# Altium footprint library CONN_3.5MM_JACK.PcbLib: 4 footprints
Each footprint in its own frame and in the unit in brackets; x right, y up, seen from the top. Pads: shape width x height; smd on the part's side, far side on the other; paste and mask are expansions set on the pad; w line width, h text height; cw(c..) or ccw(c..) is an arc to the next point about the centre after c.
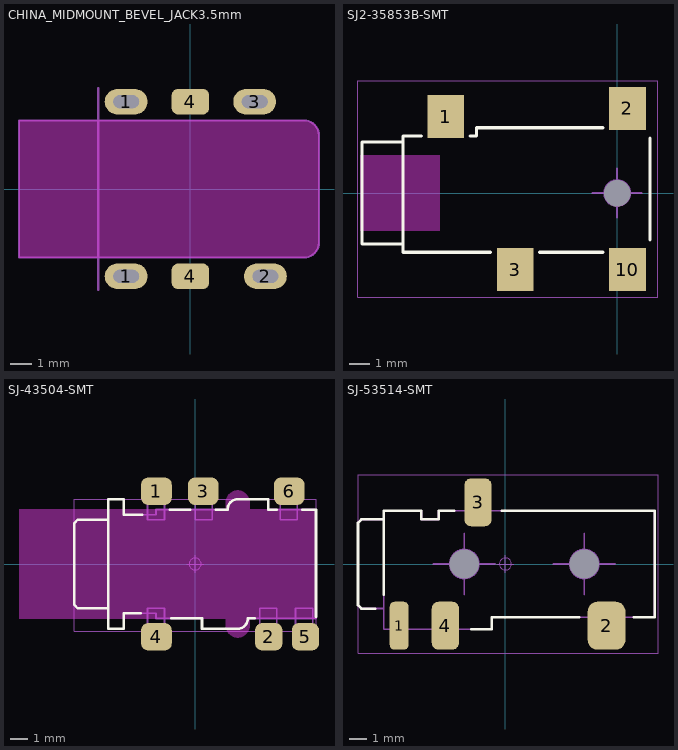
[diagram p0: the footprints below, top view; thin cyan lines are the x and y axes]

## CHINA_MIDMOUNT_BEVEL_JACK3.5mm [mm]
pads (6):
  oval 2x1.2 hole 0.6 slot 1.2 at 0 deg: 1(-3,-4.075) 1(-3,4.075) 2(3.5,-4.075) 3(3,4.075)
  rrect50% 1.75x1.2 smd: 4(0,-4.075) 4(0,4.075)
Keep-Out Layer:
  board cut-out: -8,-3.2 -8,3.2 5.3,3.2 5.369,3.2 5.504,3.173 5.632,3.12 5.746,3.044 5.844,2.946 5.92,2.832 5.973,2.704 6,2.569 6,2.5 6,-2.5 6,-2.569 5.973,-2.704 5.92,-2.832 5.844,-2.946 5.746,-3.044 5.632,-3.12 5.504,-3.173 5.369,-3.2 5.3,-3.2
Mechanical 14:
  lines w0.1: -4.3,-4.7 -4.3,4.7 ; 5.3,-3.2 ccw(c5.3,-2.5) 6,-2.5 6,2.5 ccw(c5.3,2.5) 5.3,3.2 -8,3.2 -8,-3.2 5.3,-3.2 ; 5.3,-3.2 5.3,-3.2
  text ".Comment" at -3.6,-1.8 h0.7
  text ".Designator" at -3.5,0.3 h1.5
3D body "SJ-435105.stp": height 3.45, standoff -2.75, extent -8,-4.4 6,4.3

## SJ2-35853B-SMT [mm] "http://www.cui.com/product/resource/sj2-3585x-smt.pdf"
pads (5):
  rect 1.8x2.1 smd: 1(-8.4,3.75) 2(0.5,4.15) 3(-5,-3.75) 10(0.5,-3.75)
  round 0 hole 1.3: MH(0,0)
Top Overlay:
  lines w0.15: -10.5,-2.5 -12.5,-2.5 -12.5,2.5 -10.5,2.5 ; -9.6,2.8 -10.5,2.8 -10.5,-2.9 -6.2,-2.9 ; -7.2,2.8 -6.9,2.8 -6.9,3.2 -0.7,3.2 ; -3.8,-2.9 -0.7,-2.9 ; 1.6,-2.3 1.6,2.7
Keep-Out Layer:
  board cut-out: -8.7,-1.85 -12.6,-1.85 -12.6,1.85 -8.7,1.85
Mechanical 14:
  circle w0.1: c0,0 r0.632
  lines w0.1: -1.2,0 0,0 ; 0,-1.2 0,0 ; 0,1.2 0,0 ; 1.2,0 0,0
  text ".Comment" at -7.9,-1.3 h0.7
  text ".Designator" at -10.8,2.3 h1.2
Mechanical 15:
  circle w0.05: c0,0 r0.35
  lines w0.05: -0.5,0 0.5,0 ; 0,-0.5 0,0.5 ; -12.7,-5.1 2,-5.1 2,5.5 -12.7,5.5 -12.7,-5.1
3D body "sj-43514-smt.stp": height 5.1, standoff -0.7, extent -15.2,-4.5 2,4.5

## SJ-43504-SMT [mm] "http://www.cui.com/product/resource/sj-43504-smt.pdf"
pads (6):
  rrect50% 1.8x1.6 smd: 1(-2.275,4.275) 3(0.475,4.275) 4(-2.275,-4.275) 6(5.525,4.275)
  rrect50% 1.6x1.6 smd: 2(4.325,-4.275) 5(6.475,-4.275)
Top Overlay:
  lines w0.15: -3.2,-2.9 -4.2,-2.9 -4.2,-3.8 -5.1,-3.8 -5.1,-2.6 ; -3.1,2.9 -4.2,2.9 -4.2,3.8 -5.1,3.8 -5.1,2.6 ; -1.5,3.2 -0.3,3.2 ; -1.4,-3.2 0.4,-3.2 0.4,-3.8 2.4,-3.8 2.5,-3.8 ccw(c2.5,-3.2) 3.1,-3.2 3.5,-3.2 ; 1.2,3.2 1.9,3.2 cw(c2.5,3.2) 2.5,3.8 2.6,3.8 4.3,3.8 4.3,3.2 4.8,3.2 ; 6.3,3.2 7.1,3.2 7.1,-3.1 ; -5.1,-2.6 -5.1,2.6 ; -5.1,-2.6 -6.9,-2.6 -7.1,-2.4 -7.1,2.4 -6.9,2.6 -5.1,2.6
Keep-Out Layer:
  board cut-out: -10.35,-3.225 7.125,-3.225 7.125,3.225 5.588,3.225 -10.35,3.225
  board cut-out: 2.5,4.325 2.568,4.325 2.702,4.298 2.829,4.246 2.942,4.17 3.039,4.074 3.115,3.96 3.167,3.834 3.194,3.7 3.194,3.632 3.196,2.725 3.198,0.911 3.199,-0.904 3.2,-2.718 3.2,-3.625 3.2,-3.694 3.173,-3.829 3.12,-3.957 3.044,-4.071 2.946,-4.169 2.832,-4.246 2.704,-4.298 2.569,-4.325 2.5,-4.325 2.431,-4.325 2.296,-4.298 2.168,-4.245 2.054,-4.169 1.956,-4.071 1.88,-3.957 1.827,-3.829 1.8,-3.694 1.8,-3.625 1.8,3.625 1.8,3.694 1.827,3.829 1.88,3.957 1.956,4.071 2.054,4.169 2.168,4.245 2.296,4.298 2.431,4.325
Mechanical 14:
  lines w0.1: -5.1,-2.6 -5.1,2.6 ; -5.1,-2.6 -5.1,-3.8 -4.2,-3.8 -4.2,-2.9 -2.3,-2.9 -2.3,-3.2 0.4,-3.2 0.4,-3.8 2.4,-3.8 2.5,-3.8 ccw(c2.5,-3.2) 3.1,-3.2 7.1,-3.2 7.1,3.2 4.3,3.2 4.3,3.8 2.6,3.8 2.5,3.8 ccw(c2.5,3.2) 1.9,3.2 -2.3,3.2 -2.3,2.9 -4.2,2.9 -4.2,3.8 -5.1,3.8 -5.1,2.6 ; -5.1,-2.6 -6.9,-2.6 -7.1,-2.4 -7.1,2.4 -6.9,2.6 -5.1,2.6 ; -2.8,-4.7 -2.8,-2.6 -1.8,-2.6 -1.8,-4.7 -2.8,-4.7 ; -2.8,2.6 -1.8,2.6 -1.8,4.7 -2.8,4.7 -2.8,2.6 ; 0,2.6 1,2.6 1,4.7 0,4.7 0,2.6 ; 3.8,-4.7 4.8,-4.7 4.8,-2.6 3.8,-2.6 3.8,-4.7 ; 5,2.6 6,2.6 6,4.7 5,4.7 5,2.6 ; 5.9,-4.7 6.9,-4.7 6.9,-2.6 5.9,-2.6 5.9,-4.7
  text ".Comment" at -2.8,-1.8 h0.7
  text ".Designator" at -2.7,0.3 h1.5
Mechanical 15:
  circle w0.05: c0,0 r0.35
  lines w0.05: -0.5,0 0.5,0 ; 0,-0.5 0,0.5 ; -7.1,-3.95 7.125,-3.95 7.125,3.8 -7.1,3.8 -7.1,-3.95
3D body "sj-43504-smt.stp": height 1.9, standoff -3.1, extent -7,-4.55 7,4.55

## SJ-53514-SMT [mm] "http://www.cui.com/product/resource/sj-4351x-smt-series.pdf"
pads (6):
  rrect50% 1.1x2.8 smd: 1(-6.2,-3.6)
  rrect50% 2.2x2.8 smd: 2(5.9,-3.6)
  rrect50% 1.6x2.8 smd: 3(-1.6,3.6) 4(-3.5,-3.6)
  round 0 hole 1.7: MH(-2.4,0) MH(4.6,0)
Top Overlay:
  lines w0.15: -7.6,-2.6 -8.4,-2.6 -8.6,-2.4 -8.6,-2.3 -8.6,2.4 -8.4,2.6 -7.1,2.6 ; -7.1,-1.8 -7.1,2.6 ; -3,3.1 -3.9,3.1 -3.9,2.6 -4.9,2.6 -4.9,3.1 -7.1,3.1 -7.1,2.6 ; -2,-3.8 -0.8,-3.8 -0.8,-3.1 4.3,-3.1 ; -0.2,3.1 8.7,3.1 8.7,-3.1 7.5,-3.1
Mechanical 14:
  circle w0.1: c4.6,0 r0.849
  circle w0.1: c-2.4,0 r0.849
  lines w0.1: -4.2,0 -2.4,0 ; -2.4,-1.8 -2.4,0 ; -2.4,1.8 -2.4,0 ; -0.6,0 -2.4,0 ; 2.8,0 4.6,0 ; 4.6,-1.8 4.6,0 ; 4.6,1.8 4.6,0 ; 6.4,0 4.6,0 ; -7.1,-2.6 -8.4,-2.6 -8.6,-2.4 -8.6,2.4 -8.4,2.6 -7.1,2.6 ; -7.1,-2.6 -7.1,2.6 ; -7.1,-2.6 -7.1,-3.8 -0.8,-3.8 -0.8,-3.1 8.7,-3.1 8.7,3.1 -3.9,3.1 -3.9,2.6 -4.9,2.6 -4.9,3.1 -7.1,3.1 -7.1,2.6 ; -6.6,-4.8 -6.6,-2.7 -5.8,-2.7 -5.8,-4.8 -6.6,-4.8 ; -4,-4.8 -3,-4.8 -3,-2.7 -4,-2.7 -4,-4.8 ; -2.1,2.5 -2.1,4.6 -1.1,4.6 -1.1,2.5 -2.1,2.5 ; 5.4,-4.8 5.4,-2.7 6.4,-2.7 6.4,-4.8 5.4,-4.8
  text ".Comment" at -1.2,-2.2 h0.7
  text ".Designator" at -0.8,0.6 h1.5
Mechanical 15:
  circle w0.05: c0,0 r0.35
  lines w0.05: -0.5,0 0.5,0 ; 0,-0.5 0,0.5 ; -8.6,-5.2 8.9,-5.2 8.9,5.2 -8.6,5.2 -8.6,-5.2
3D body "sj-43514-smt.stp": height 5.1, standoff -0.7, extent -8.6,-4.5 8.6,4.5